# Altium integrated library 39543-0603.IntLib: 1 symbol
Pins are listed as number, name and electrical type; pins without a type are passive.

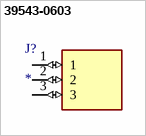
[diagram p0: symbol 39543-0603]

## 39543-0603
designator J?
3 Position Wire to Board Terminal Block Horizontal with Board 0.197 (5.00mm) Through Hole; MF: Molex; MP: 395430603; SnapEDA_Link: https://www.snapeda.com/parts/395430603/Molex/view-part/?ref=snap; Package: None; Value: *; Check_prices: https://www.snapeda.com/parts/395430603/Molex/view-part/?ref=eda
footprint 39543-0603
pins: 1 (io), 2 (io), 3 (io)